# EAGLE library part DISP-7S4D_14.4MM (library display-4d)
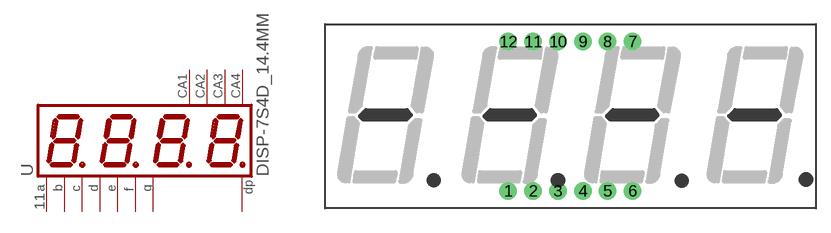
[diagram p0: symbol with the pads of DISP-7S4D; footprint DISP-7S4D]

Designator prefix -

## DISP-7S4D_14.4MM  [DISP-7S4D]
1  E  pas
2  D  pas
3  DP  pas
4  C  pas
5  G  pas
6  С4
7  B  pas
8  С3
9  С2
10  F  pas
11  A  pas
12  С1

## Footprint DISP-7S4D (pad centres in mm)
drill 0.5 pad 1.778: 1 -6.35,-7.62; 2 -3.81,-7.62; 3 -1.27,-7.62; 4 1.27,-7.62; 5 3.81,-7.62; 6 6.35,-7.62; 7 6.35,7.62; 8 3.81,7.62; 9 1.27,7.62; 10 -1.27,7.62; 11 -3.81,7.62; 12 -6.35,7.62